# Altium footprint library LED.PcbLib: 1 footprints
Each footprint in its own frame and in the unit in brackets; x right, y up, seen from the top. Pads: shape width x height; smd on the part's side, far side on the other; paste and mask are expansions set on the pad; w line width, h text height; cw(c..) or ccw(c..) is an arc to the next point about the centre after c.
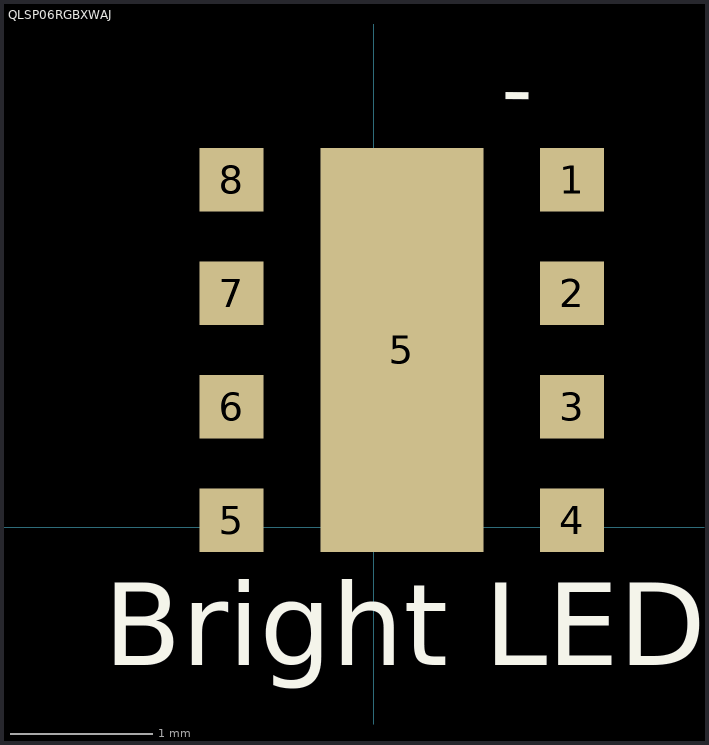
[diagram p0: the footprint, top view; thin cyan lines are the x and y axes]

## QLSP06RGBXWAJ [mm] "LED!"
height 1.8
pads (9):
  rect 0.45x0.45 smd: 1(1.4,2.45) 2(1.4,1.65) 3(1.4,0.85) 4(1.4,0.05) 5(-1,0.05) 6(-1,0.85) 7(-1,1.65) 8(-1,2.45)
  rect 1.15x2.85 smd: 5(0.2,1.25)
Top Overlay:
  text "Bright LED!" at -1.9,-1.162 h1
  text "-" at 0.9,2.873 h0.45